# Altium integrated library Analog Devices Operational Amplifiers.IntLib: 2102 symbols (part 2 of 70)
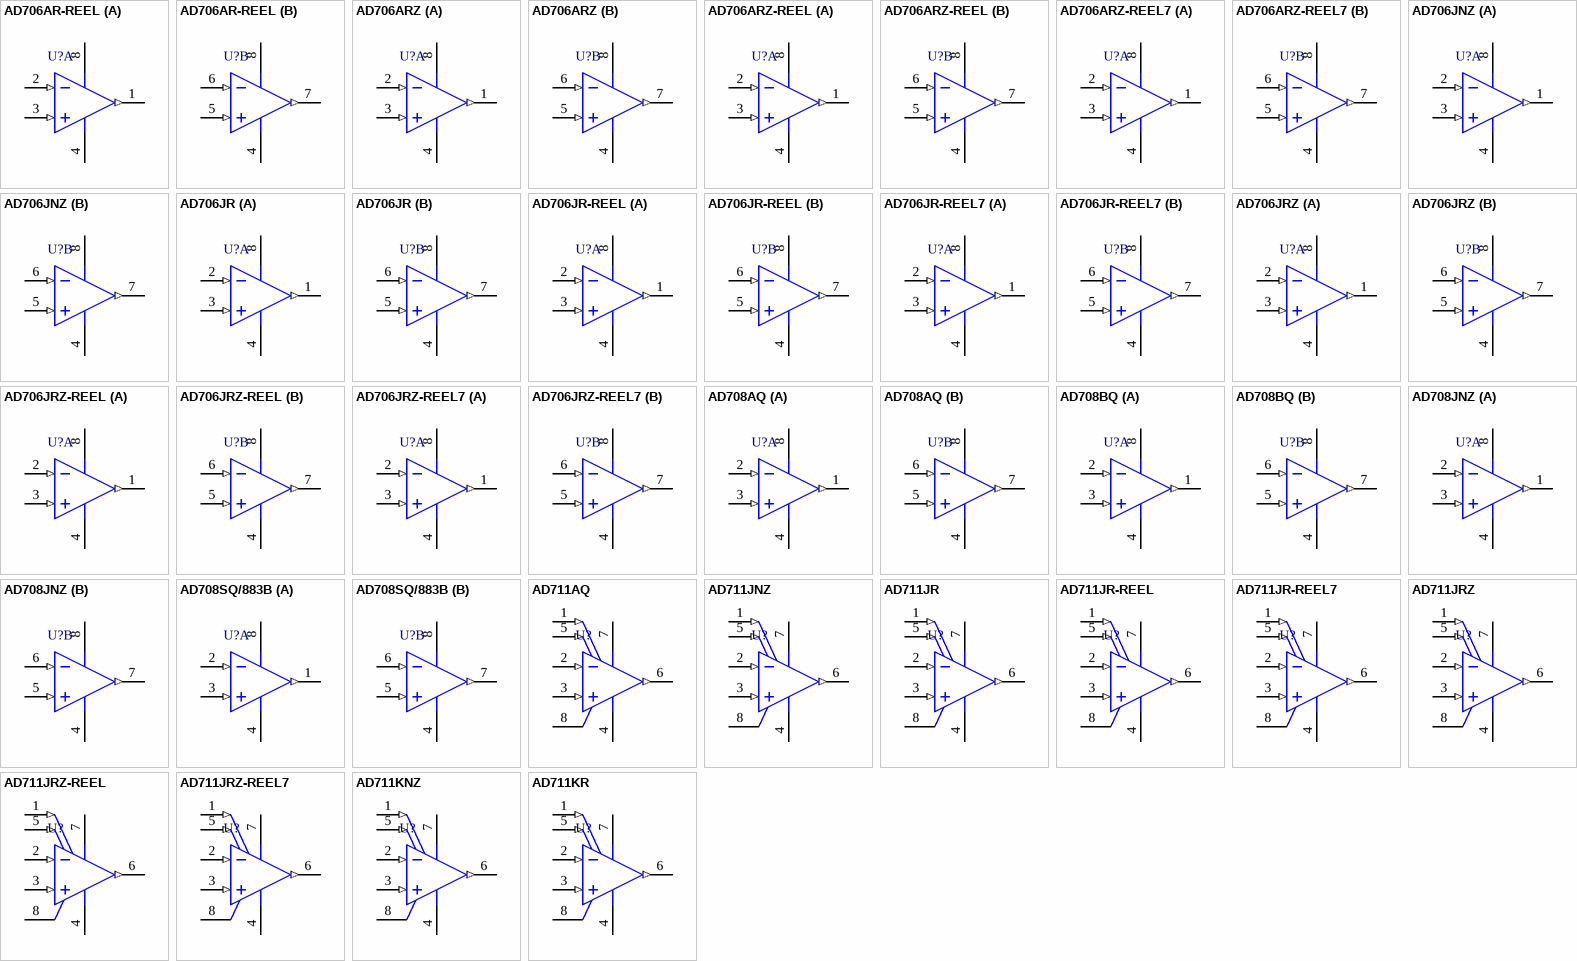
[diagram p115: symbols AD706AR-REEL to AD711KR]

## AD706ARZ-REEL7
designator U?
Double Channel High DC Precision Operational Amplifier, 800 KHz BW, 150 mV/us SR, Industrial, 8-pin SOIC (R-8), Reel; Generic Part Number: AD706; Manufacturer: Analog Devices; PartNumber: AD706ARZ-REEL7; Amplifiers Per Package: 2; Input Bias Current: 50pA; Input Offset Voltage: 30uV; Iq/Amp: 600uA; Small Signal Bandwidth: 800KHz; V Span Max: 36V; V Span Min: 4V; DatasheetVersion: Rev. E; PackageVersion: 060506-A; PackageReference: R-8; PackageDescription: 8-Pin Standard Small Outline Package, Body 3.9 x 4.9 mm, Pitch 1.27 mm; Supplier 1: Digi-Key; Supplier Part Number 1: AD706ARZ-REEL7TR-ND; Supplier 2: Digi-Key; Supplier Part Number 2: AD706ARZ-REEL7CT-ND; Supplier 3: Digi-Key; Supplier Part Number 3: AD706ARZ-REEL7DKR-ND; Supplier 4: Newark; Supplier Part Number 4: 87H9965; Packing: Reel; Slew Rate: 150mV/us; Mounting Technology: Surface Mount; Code_JEDEC: MS-012-AA; ComponentLink1Description: Manufacturer URL; ComponentLink1URL: http://www.analog.com/en/index.html; ComponentLink2Description: Datasheet; ComponentLink2URL: http://www.analog.com/static/imported-files/data_sheets/AD706.pdf; ComponentLink3Description: Package Specification; ComponentLink3URL: http://www.analog.com/static/imported-files/packages/PKG_PDF/SOIC_Narrow%20(R)/R_8.pdf
footprint ADI-R-8_N (SOIC, 8-Leads, Body 4.9x3.9mm, Pitch 1.27mm, IPC Medium Density)
footprint ADI-R-8_L (SOIC, 8-Leads, Body 4.9x3.9mm, Pitch 1.27mm, IPC High Density)
footprint ADI-R-8_M (SOIC, 8-Leads, Body 4.9x3.9mm, Pitch 1.27mm, IPC Low Density)
pins on every part: 4 -V (power), 8 +V (power)
part A pins: 1 OUT (out), 2 -IN (in), 3 +IN (in)
part B pins: 5 +IN (in), 6 -IN (in), 7 OUT (out)

## AD706JNZ
designator U?
Double Channel High DC Precision Operational Amplifier, 800 KHz BW, 150 mV/us SR, Commercial, 8-pin DIP (N-8), Tube; Generic Part Number: AD706; Manufacturer: Analog Devices; PartNumber: AD706JNZ; Amplifiers Per Package: 2; Input Bias Current: 50pA; Input Offset Voltage: 30uV; Iq/Amp: 600uA; Small Signal Bandwidth: 800KHz; V Span Max: 36V; V Span Min: 4V; DatasheetVersion: Rev. E; PackageVersion: 070606-A; PackageReference: N-8; PackageDescription: 8-Pin Plastic Dual In-Line Package, Row spacing 7.62 mm, Pitch 2.54 mm; Supplier 1: Digi-Key; Supplier Part Number 1: AD706JNZ-ND; Supplier 2: Farnell; Supplier Part Number 2: 1438358; Supplier 3: Newark; Supplier Part Number 3: 19M8833; Packing: Tube; Slew Rate: 150mV/us; Mounting Technology: Through Hole; Code_JEDEC: MS-001; ComponentLink1Description: Manufacturer URL; ComponentLink1URL: http://www.analog.com/en/index.html; ComponentLink2Description: Datasheet; ComponentLink2URL: http://www.analog.com/static/imported-files/data_sheets/AD706.pdf; ComponentLink3Description: Package Specification; ComponentLink3URL: http:/www.analog.com/static/imported-files/packages/PKG_PDF/PDIP(N)/N_8.pdf
footprint ADI-N-8 (DIP, 8-Leads, Body 9.59x6.6mm, Pitch 2.54mm)
pins on every part: 4 -V (power), 8 +V (power)
part A pins: 1 OUT (out), 2 -IN (in), 3 +IN (in)
part B pins: 5 +IN (in), 6 -IN (in), 7 OUT (out)

## AD706JR
designator U?
Double Channel High DC Precision Operational Amplifier, 800 KHz BW, 150 mV/us SR, Commercial, 8-pin SOIC (R-8), Tube; Generic Part Number: AD706; Manufacturer: Analog Devices; PartNumber: AD706JR; Amplifiers Per Package: 2; Input Bias Current: 50pA; Input Offset Voltage: 30uV; Iq/Amp: 600uA; Small Signal Bandwidth: 800KHz; V Span Max: 36V; V Span Min: 4V; DatasheetVersion: Rev. E; PackageVersion: 060506-A; PackageReference: R-8; PackageDescription: 8-Pin Standard Small Outline Package, Body 3.9 x 4.9 mm, Pitch 1.27 mm; Supplier 1: Digi-Key; Supplier Part Number 1: AD706JR-ND; Packing: Tube; Slew Rate: 150mV/us; Mounting Technology: Surface Mount; Code_JEDEC: MS-012-AA; ComponentLink1Description: Manufacturer URL; ComponentLink1URL: http://www.analog.com/en/index.html; ComponentLink2Description: Datasheet; ComponentLink2URL: http://www.analog.com/static/imported-files/data_sheets/AD706.pdf; ComponentLink3Description: Package Specification; ComponentLink3URL: http://www.analog.com/static/imported-files/packages/PKG_PDF/SOIC_Narrow%20(R)/R_8.pdf
footprint ADI-R-8_N (SOIC, 8-Leads, Body 4.9x3.9mm, Pitch 1.27mm, IPC Medium Density)
footprint ADI-R-8_L (SOIC, 8-Leads, Body 4.9x3.9mm, Pitch 1.27mm, IPC High Density)
footprint ADI-R-8_M (SOIC, 8-Leads, Body 4.9x3.9mm, Pitch 1.27mm, IPC Low Density)
pins on every part: 4 -V (power), 8 +V (power)
part A pins: 1 OUT (out), 2 -IN (in), 3 +IN (in)
part B pins: 5 +IN (in), 6 -IN (in), 7 OUT (out)

## AD706JR-REEL
designator U?
Double Channel High DC Precision Operational Amplifier, 800 KHz BW, 150 mV/us SR, Commercial, 8-pin SOIC (R-8), Reel; Generic Part Number: AD706; Manufacturer: Analog Devices; PartNumber: AD706JR-REEL; Amplifiers Per Package: 2; Input Bias Current: 50pA; Input Offset Voltage: 30uV; Iq/Amp: 600uA; Small Signal Bandwidth: 800KHz; V Span Max: 36V; V Span Min: 4V; DatasheetVersion: Rev. E; PackageVersion: 060506-A; PackageReference: R-8; PackageDescription: 8-Pin Standard Small Outline Package, Body 3.9 x 4.9 mm, Pitch 1.27 mm; Supplier 1: Digi-Key; Supplier Part Number 1: AD706JR-REEL-ND; Supplier 2: Newark; Supplier Part Number 2: 09B5535; Packing: Reel; Slew Rate: 150mV/us; Mounting Technology: Surface Mount; Code_JEDEC: MS-012-AA; ComponentLink1Description: Manufacturer URL; ComponentLink1URL: http://www.analog.com/en/index.html; ComponentLink2Description: Datasheet; ComponentLink2URL: http://www.analog.com/static/imported-files/data_sheets/AD706.pdf; ComponentLink3Description: Package Specification; ComponentLink3URL: http://www.analog.com/static/imported-files/packages/PKG_PDF/SOIC_Narrow%20(R)/R_8.pdf
footprint ADI-R-8_N (SOIC, 8-Leads, Body 4.9x3.9mm, Pitch 1.27mm, IPC Medium Density)
footprint ADI-R-8_L (SOIC, 8-Leads, Body 4.9x3.9mm, Pitch 1.27mm, IPC High Density)
footprint ADI-R-8_M (SOIC, 8-Leads, Body 4.9x3.9mm, Pitch 1.27mm, IPC Low Density)
pins on every part: 4 -V (power), 8 +V (power)
part A pins: 1 OUT (out), 2 -IN (in), 3 +IN (in)
part B pins: 5 +IN (in), 6 -IN (in), 7 OUT (out)

## AD706JR-REEL7
designator U?
Double Channel High DC Precision Operational Amplifier, 800 KHz BW, 150 mV/us SR, Commercial, 8-pin SOIC (R-8), Reel; Generic Part Number: AD706; Manufacturer: Analog Devices; PartNumber: AD706JR-REEL7; Amplifiers Per Package: 2; Input Bias Current: 50pA; Input Offset Voltage: 30uV; Iq/Amp: 600uA; Small Signal Bandwidth: 800KHz; V Span Max: 36V; V Span Min: 4V; DatasheetVersion: Rev. E; PackageVersion: 060506-A; PackageReference: R-8; PackageDescription: 8-Pin Standard Small Outline Package, Body 3.9 x 4.9 mm, Pitch 1.27 mm; Supplier 1: Digi-Key; Supplier Part Number 1: AD706JR-REEL7-ND; Supplier 2: Newark; Supplier Part Number 2: 09B5536; Packing: Reel; Slew Rate: 150mV/us; Mounting Technology: Surface Mount; Code_JEDEC: MS-012-AA; ComponentLink1Description: Manufacturer URL; ComponentLink1URL: http://www.analog.com/en/index.html; ComponentLink2Description: Datasheet; ComponentLink2URL: http://www.analog.com/static/imported-files/data_sheets/AD706.pdf; ComponentLink3Description: Package Specification; ComponentLink3URL: http://www.analog.com/static/imported-files/packages/PKG_PDF/SOIC_Narrow%20(R)/R_8.pdf
footprint ADI-R-8_N (SOIC, 8-Leads, Body 4.9x3.9mm, Pitch 1.27mm, IPC Medium Density)
footprint ADI-R-8_L (SOIC, 8-Leads, Body 4.9x3.9mm, Pitch 1.27mm, IPC High Density)
footprint ADI-R-8_M (SOIC, 8-Leads, Body 4.9x3.9mm, Pitch 1.27mm, IPC Low Density)
pins on every part: 4 -V (power), 8 +V (power)
part A pins: 1 OUT (out), 2 -IN (in), 3 +IN (in)
part B pins: 5 +IN (in), 6 -IN (in), 7 OUT (out)

## AD706JRZ
designator U?
Double Channel High DC Precision Operational Amplifier, 800 KHz BW, 150 mV/us SR, Commercial, 8-pin SOIC (R-8), Tube; Generic Part Number: AD706; Manufacturer: Analog Devices; PartNumber: AD706JRZ; Amplifiers Per Package: 2; Input Bias Current: 50pA; Input Offset Voltage: 30uV; Iq/Amp: 600uA; Small Signal Bandwidth: 800KHz; V Span Max: 36V; V Span Min: 4V; DatasheetVersion: Rev. E; PackageVersion: 060506-A; PackageReference: R-8; PackageDescription: 8-Pin Standard Small Outline Package, Body 3.9 x 4.9 mm, Pitch 1.27 mm; Supplier 1: Digi-Key; Supplier Part Number 1: AD706JRZ-ND; Supplier 2: Farnell; Supplier Part Number 2: 1423828; Supplier 3: Newark; Supplier Part Number 3: 87H9966; Packing: Tube; Slew Rate: 150mV/us; Mounting Technology: Surface Mount; Code_JEDEC: MS-012-AA; ComponentLink1Description: Manufacturer URL; ComponentLink1URL: http://www.analog.com/en/index.html; ComponentLink2Description: Datasheet; ComponentLink2URL: http://www.analog.com/static/imported-files/data_sheets/AD706.pdf; ComponentLink3Description: Package Specification; ComponentLink3URL: http://www.analog.com/static/imported-files/packages/PKG_PDF/SOIC_Narrow%20(R)/R_8.pdf
footprint ADI-R-8_N (SOIC, 8-Leads, Body 4.9x3.9mm, Pitch 1.27mm, IPC Medium Density)
footprint ADI-R-8_L (SOIC, 8-Leads, Body 4.9x3.9mm, Pitch 1.27mm, IPC High Density)
footprint ADI-R-8_M (SOIC, 8-Leads, Body 4.9x3.9mm, Pitch 1.27mm, IPC Low Density)
pins on every part: 4 -V (power), 8 +V (power)
part A pins: 1 OUT (out), 2 -IN (in), 3 +IN (in)
part B pins: 5 +IN (in), 6 -IN (in), 7 OUT (out)

## AD706JRZ-REEL
designator U?
Double Channel High DC Precision Operational Amplifier, 800 KHz BW, 150 mV/us SR, Commercial, 8-pin SOIC (R-8), Reel; Generic Part Number: AD706; Manufacturer: Analog Devices; PartNumber: AD706JRZ-REEL; Amplifiers Per Package: 2; Input Bias Current: 50pA; Input Offset Voltage: 30uV; Iq/Amp: 600uA; Small Signal Bandwidth: 800KHz; V Span Max: 36V; V Span Min: 4V; DatasheetVersion: Rev. E; PackageVersion: 060506-A; PackageReference: R-8; PackageDescription: 8-Pin Standard Small Outline Package, Body 3.9 x 4.9 mm, Pitch 1.27 mm; Supplier 1: Digi-Key; Supplier Part Number 1: AD706JRZ-REEL-ND; Packing: Reel; Slew Rate: 150mV/us; Mounting Technology: Surface Mount; Code_JEDEC: MS-012-AA; ComponentLink1Description: Manufacturer URL; ComponentLink1URL: http://www.analog.com/en/index.html; ComponentLink2Description: Datasheet; ComponentLink2URL: http://www.analog.com/static/imported-files/data_sheets/AD706.pdf; ComponentLink3Description: Package Specification; ComponentLink3URL: http://www.analog.com/static/imported-files/packages/PKG_PDF/SOIC_Narrow%20(R)/R_8.pdf
footprint ADI-R-8_N (SOIC, 8-Leads, Body 4.9x3.9mm, Pitch 1.27mm, IPC Medium Density)
footprint ADI-R-8_L (SOIC, 8-Leads, Body 4.9x3.9mm, Pitch 1.27mm, IPC High Density)
footprint ADI-R-8_M (SOIC, 8-Leads, Body 4.9x3.9mm, Pitch 1.27mm, IPC Low Density)
pins on every part: 4 -V (power), 8 +V (power)
part A pins: 1 OUT (out), 2 -IN (in), 3 +IN (in)
part B pins: 5 +IN (in), 6 -IN (in), 7 OUT (out)

## AD706JRZ-REEL7
designator U?
Double Channel High DC Precision Operational Amplifier, 800 KHz BW, 150 mV/us SR, Commercial, 8-pin SOIC (R-8), Reel; Generic Part Number: AD706; Manufacturer: Analog Devices; PartNumber: AD706JRZ-REEL7; Amplifiers Per Package: 2; Input Bias Current: 50pA; Input Offset Voltage: 30uV; Iq/Amp: 600uA; Small Signal Bandwidth: 800KHz; V Span Max: 36V; V Span Min: 4V; DatasheetVersion: Rev. E; PackageVersion: 060506-A; PackageReference: R-8; PackageDescription: 8-Pin Standard Small Outline Package, Body 3.9 x 4.9 mm, Pitch 1.27 mm; Supplier 1: Digi-Key; Supplier Part Number 1: AD706JRZ-REEL7TR-ND; Supplier 2: Digi-Key; Supplier Part Number 2: AD706JRZ-REEL7CT-ND; Supplier 3: Digi-Key; Supplier Part Number 3: AD706JRZ-REEL7DKR-ND; Supplier 4: Newark; Supplier Part Number 4: 87H9968; Packing: Reel; Slew Rate: 150mV/us; Mounting Technology: Surface Mount; Code_JEDEC: MS-012-AA; ComponentLink1Description: Manufacturer URL; ComponentLink1URL: http://www.analog.com/en/index.html; ComponentLink2Description: Datasheet; ComponentLink2URL: http://www.analog.com/static/imported-files/data_sheets/AD706.pdf; ComponentLink3Description: Package Specification; ComponentLink3URL: http://www.analog.com/static/imported-files/packages/PKG_PDF/SOIC_Narrow%20(R)/R_8.pdf
footprint ADI-R-8_N (SOIC, 8-Leads, Body 4.9x3.9mm, Pitch 1.27mm, IPC Medium Density)
footprint ADI-R-8_L (SOIC, 8-Leads, Body 4.9x3.9mm, Pitch 1.27mm, IPC High Density)
footprint ADI-R-8_M (SOIC, 8-Leads, Body 4.9x3.9mm, Pitch 1.27mm, IPC Low Density)
pins on every part: 4 -V (power), 8 +V (power)
part A pins: 1 OUT (out), 2 -IN (in), 3 +IN (in)
part B pins: 5 +IN (in), 6 -IN (in), 7 OUT (out)

## AD708AQ
designator U?
Double Channel Very High DC Precision Operational Amplifier, 900KHz BW, 300 mV/us SR, Industrial, 8-pin DIP (Q-8), Tube; Generic Part Number: AD708; Manufacturer: Analog Devices; PartNumber: AD708AQ; Amplifiers Per Package: 2; Input Bias Current: 1nA; Input Offset Voltage: 30uV; Iq/Amp: 2.75mA; V Span Max: 36V; V Span Min: 6V; DatasheetVersion: Rev. C; PackageReference: Q-8; PackageDescription: 8-Pin Ceramic Dual In-Line Package, Row spacing 7.62 mm, Pitch 2.54 mm; Supplier 1: Digi-Key; Supplier Part Number 1: AD708AQ-ND; Supplier 2: Farnell; Supplier Part Number 2: 2231864; Supplier 3: Newark; Supplier Part Number 3: 05F7250; Packing: Tube; Slew Rate: 300mV/us; Small Signal Bandwidth: 900KHz; Mounting Technology: Through Hole; ComponentLink1Description: Manufacturer URL; ComponentLink1URL: http://www.analog.com/en/index.html; ComponentLink2Description: Datasheet; ComponentLink2URL: http://www.analog.com/static/imported-files/data_sheets/AD708.pdf; ComponentLink3Description: Package Specification; ComponentLink3URL: http://www.analog.com/static/imported-files/packages/3925655241313314758Q_8.pdf
footprint ADI-Q-8 (DIP, 8-Leads, Body 10.29x6.73mm, Pitch 2.54mm)
pins on every part: 4 -VS (power), 8 +VS (power)
part A pins: 1 OUT A (out), 2 -IN A (in), 3 +IN A (in)
part B pins: 5 +IN B (in), 6 -IN B (in), 7 OUT B (out)

## AD708BQ
designator U?
Double Channel Very High DC Precision Operational Amplifier, 900KHz BW, 300 mV/us SR, Industrial, 8-pin DIP (Q-8), Tube; Generic Part Number: AD708; Manufacturer: Analog Devices; PartNumber: AD708BQ; Amplifiers Per Package: 2; Input Bias Current: 0.5nA; Input Offset Voltage: 5uV; Iq/Amp: 2.75mA; V Span Max: 36V; V Span Min: 6V; DatasheetVersion: Rev. C; PackageReference: Q-8; PackageDescription: 8-Pin Ceramic Dual In-Line Package, Row spacing 7.62 mm, Pitch 2.54 mm; Supplier 1: Digi-Key; Supplier Part Number 1: AD708BQ-ND; Supplier 2: Newark; Supplier Part Number 2: 05F7251; Packing: Tube; Slew Rate: 300mV/us; Small Signal Bandwidth: 900KHz; Mounting Technology: Through Hole; ComponentLink1Description: Manufacturer URL; ComponentLink1URL: http://www.analog.com/en/index.html; ComponentLink2Description: Datasheet; ComponentLink2URL: http://www.analog.com/static/imported-files/data_sheets/AD708.pdf; ComponentLink3Description: Package Specification; ComponentLink3URL: http://www.analog.com/static/imported-files/packages/3925655241313314758Q_8.pdf
footprint ADI-Q-8 (DIP, 8-Leads, Body 10.29x6.73mm, Pitch 2.54mm)
pins on every part: 4 -VS (power), 8 +VS (power)
part A pins: 1 OUT A (out), 2 -IN A (in), 3 +IN A (in)
part B pins: 5 +IN B (in), 6 -IN B (in), 7 OUT B (out)

## AD708JNZ
designator U?
Double Channel Very High DC Precision Operational Amplifier, 900KHz BW, 300 mV/us SR, Commercial, 8-pin DIP (N-8), Tube; Generic Part Number: AD708; Manufacturer: Analog Devices; PartNumber: AD708JNZ; Amplifiers Per Package: 2; Input Bias Current: 1nA; Input Offset Voltage: 30uV; Iq/Amp: 2.75mA; V Span Max: 36V; V Span Min: 6V; DatasheetVersion: Rev. C; PackageVersion: 070606-A; PackageReference: N-8; PackageDescription: 8-Pin Plastic Dual In-Line Package, Row spacing 7.62 mm, Pitch 2.54 mm; Supplier 1: Digi-Key; Supplier Part Number 1: AD708JNZ-ND; Supplier 2: Farnell; Supplier Part Number 2: 9604766; Supplier 3: Newark; Supplier Part Number 3: 59K4537; Packing: Tube; Slew Rate: 300mV/us; Small Signal Bandwidth: 900KHz; Mounting Technology: Through Hole; Code_JEDEC: MS-001; ComponentLink1Description: Manufacturer URL; ComponentLink1URL: http://www.analog.com/en/index.html; ComponentLink2Description: Datasheet; ComponentLink2URL: http://www.analog.com/static/imported-files/data_sheets/AD708.pdf; ComponentLink3Description: Package Specification; ComponentLink3URL: http:/www.analog.com/static/imported-files/packages/PKG_PDF/PDIP(N)/N_8.pdf
footprint ADI-N-8 (DIP, 8-Leads, Body 9.59x6.6mm, Pitch 2.54mm)
pins on every part: 4 -VS (power), 8 +VS (power)
part A pins: 1 OUT A (out), 2 -IN A (in), 3 +IN A (in)
part B pins: 5 +IN B (in), 6 -IN B (in), 7 OUT B (out)

## AD708SQ/883B
designator U?
Double Channel Very High DC Precision Operational Amplifier, 900KHz BW, 300 mV/us SR, Military, 8-pin DIP (Q-8), Tube; Generic Part Number: AD708; Manufacturer: Analog Devices; PartNumber: AD708SQ/883B; Amplifiers Per Package: 2; Input Bias Current: 0.5nA; Input Offset Voltage: 5uV; Iq/Amp: 2.75mA; V Span Max: 36V; V Span Min: 6V; DatasheetVersion: Rev. C; PackageReference: Q-8; PackageDescription: 8-Pin Ceramic Dual In-Line Package, Row spacing 7.62 mm, Pitch 2.54 mm; Supplier 1: Digi-Key; Supplier Part Number 1: AD708SQ/883B-ND; Packing: Tube; Slew Rate: 300mV/us; Small Signal Bandwidth: 900KHz; Mounting Technology: Through Hole; ComponentLink1Description: Manufacturer URL; ComponentLink1URL: http://www.analog.com/en/index.html; ComponentLink2Description: Datasheet; ComponentLink2URL: http://www.analog.com/static/imported-files/data_sheets/AD708.pdf; ComponentLink3Description: Package Specification; ComponentLink3URL: http://www.analog.com/static/imported-files/packages/3925655241313314758Q_8.pdf
footprint ADI-Q-8 (DIP, 8-Leads, Body 10.29x6.73mm, Pitch 2.54mm)
pins on every part: 4 -VS (power), 8 +VS (power)
part A pins: 1 OUT A (out), 2 -IN A (in), 3 +IN A (in)
part B pins: 5 +IN B (in), 6 -IN B (in), 7 OUT B (out)

## AD711AQ
designator U?
Single Channel Operational Amplifier, 4 MHz BW, 20 V/us SR, Industrial, 8-pin DIP (Q-8), Tube; Generic Part Number: AD711; Manufacturer: Analog Devices; PartNumber: AD711AQ; Amplifiers Per Package: 1; Input Bias Current: 15pA; Input Offset Voltage: 300uV; Iq/Amp: 2.8mA; Slew Rate: 20V/us; Small Signal Bandwidth: 4MHz; V Span Max: 36V; V Span Min: 9V; DatasheetVersion: Rev. E; PackageReference: Q-8; PackageDescription: 8-Pin Ceramic Dual In-Line Package, Row spacing 7.62 mm, Pitch 2.54 mm; Supplier 1: Digi-Key; Supplier Part Number 1: AD711AQ-ND; Supplier 2: Newark; Supplier Part Number 2: 05F7255; Packing: Tube; Mounting Technology: Through Hole; ComponentLink1Description: Manufacturer URL; ComponentLink1URL: http://www.analog.com/en/index.html; ComponentLink2Description: Datasheet; ComponentLink2URL: http://www.analog.com/static/imported-files/data_sheets/AD711.pdf; ComponentLink3Description: Package Specification; ComponentLink3URL: http://www.analog.com/static/imported-files/packages/3925655241313314758Q_8.pdf
footprint ADI-Q-8 (DIP, 8-Leads, Body 10.29x6.73mm, Pitch 2.54mm)
pins: 1 OFFSET NULL (in), 2 INVERTING INPUT (in), 3 NONINVERTING INPUT (in), 4 -VS (power), 5 OFFSET NULL (in), 6 OUT (out), 7 +VS (power), 8 NC

## AD711JNZ
designator U?
Single Channel Operational Amplifier, 4 MHz BW, 20 V/us SR, Commercial, 8-pin DIP (N-8), Tube; Generic Part Number: AD711; Manufacturer: Analog Devices; PartNumber: AD711JNZ; Amplifiers Per Package: 1; Input Bias Current: 15pA; Input Offset Voltage: 300uV; Iq/Amp: 2.8mA; Slew Rate: 20V/us; Small Signal Bandwidth: 4MHz; V Span Max: 36V; V Span Min: 9V; DatasheetVersion: Rev. E; PackageVersion: 070606-A; PackageReference: N-8; PackageDescription: 8-Pin Plastic Dual In-Line Package, Row spacing 7.62 mm, Pitch 2.54 mm; Supplier 1: Digi-Key; Supplier Part Number 1: AD711JNZ-ND; Supplier 2: Farnell; Supplier Part Number 2: 9604839; Supplier 3: Newark; Supplier Part Number 3: 59K4538; Packing: Tube; Mounting Technology: Through Hole; Code_JEDEC: MS-001; ComponentLink1Description: Manufacturer URL; ComponentLink1URL: http://www.analog.com/en/index.html; ComponentLink2Description: Datasheet; ComponentLink2URL: http://www.analog.com/static/imported-files/data_sheets/AD711.pdf; ComponentLink3Description: Package Specification; ComponentLink3URL: http:/www.analog.com/static/imported-files/packages/PKG_PDF/PDIP(N)/N_8.pdf
footprint ADI-N-8 (DIP, 8-Leads, Body 9.59x6.6mm, Pitch 2.54mm)
pins: 1 OFFSET NULL (in), 2 INVERTING INPUT (in), 3 NONINVERTING INPUT (in), 4 -VS (power), 5 OFFSET NULL (in), 6 OUT (out), 7 +VS (power), 8 NC

## AD711JR
designator U?
Single Channel Operational Amplifier, 4 MHz BW, 20 V/us SR, Commercial, 8-pin SOIC (R-8), Tube; Generic Part Number: AD711; Manufacturer: Analog Devices; PartNumber: AD711JR; Amplifiers Per Package: 1; Input Bias Current: 15pA; Input Offset Voltage: 300uV; Iq/Amp: 2.8mA; Slew Rate: 20V/us; Small Signal Bandwidth: 4MHz; V Span Max: 36V; V Span Min: 9V; DatasheetVersion: Rev. E; PackageVersion: 060506-A; PackageReference: R-8; PackageDescription: 8-Pin Standard Small Outline Package, Body 3.9 x 4.9 mm, Pitch 1.27 mm; Supplier 1: Digi-Key; Supplier Part Number 1: AD711JR-ND; Packing: Tube; Mounting Technology: Surface Mount; Code_JEDEC: MS-012-AA; ComponentLink1Description: Manufacturer URL; ComponentLink1URL: http://www.analog.com/en/index.html; ComponentLink2Description: Datasheet; ComponentLink2URL: http://www.analog.com/static/imported-files/data_sheets/AD711.pdf; ComponentLink3Description: Package Specification; ComponentLink3URL: http://www.analog.com/static/imported-files/packages/PKG_PDF/SOIC_Narrow%20(R)/R_8.pdf
footprint ADI-R-8_N (SOIC, 8-Leads, Body 4.9x3.9mm, Pitch 1.27mm, IPC Medium Density)
footprint ADI-R-8_L (SOIC, 8-Leads, Body 4.9x3.9mm, Pitch 1.27mm, IPC High Density)
footprint ADI-R-8_M (SOIC, 8-Leads, Body 4.9x3.9mm, Pitch 1.27mm, IPC Low Density)
pins: 1 OFFSET NULL (in), 2 INVERTING INPUT (in), 3 NONINVERTING INPUT (in), 4 -VS (power), 5 OFFSET NULL (in), 6 OUT (out), 7 +VS (power), 8 NC

## AD711JR-REEL
designator U?
Single Channel Operational Amplifier, 4 MHz BW, 20 V/us SR, Commercial, 8-pin SOIC (R-8), Reel; Generic Part Number: AD711; Manufacturer: Analog Devices; PartNumber: AD711JR-REEL; Amplifiers Per Package: 1; Input Bias Current: 15pA; Input Offset Voltage: 300uV; Iq/Amp: 2.8mA; Slew Rate: 20V/us; Small Signal Bandwidth: 4MHz; V Span Max: 36V; V Span Min: 9V; DatasheetVersion: Rev. E; PackageVersion: 060506-A; PackageReference: R-8; PackageDescription: 8-Pin Standard Small Outline Package, Body 3.9 x 4.9 mm, Pitch 1.27 mm; Supplier 1: Digi-Key; Supplier Part Number 1: AD711JR-REEL-ND; Supplier 2: Newark; Supplier Part Number 2: 09B5546; Packing: Reel; Mounting Technology: Surface Mount; Code_JEDEC: MS-012-AA; ComponentLink1Description: Manufacturer URL; ComponentLink1URL: http://www.analog.com/en/index.html; ComponentLink2Description: Datasheet; ComponentLink2URL: http://www.analog.com/static/imported-files/data_sheets/AD711.pdf; ComponentLink3Description: Package Specification; ComponentLink3URL: http://www.analog.com/static/imported-files/packages/PKG_PDF/SOIC_Narrow%20(R)/R_8.pdf
footprint ADI-R-8_N (SOIC, 8-Leads, Body 4.9x3.9mm, Pitch 1.27mm, IPC Medium Density)
footprint ADI-R-8_L (SOIC, 8-Leads, Body 4.9x3.9mm, Pitch 1.27mm, IPC High Density)
footprint ADI-R-8_M (SOIC, 8-Leads, Body 4.9x3.9mm, Pitch 1.27mm, IPC Low Density)
pins: 1 OFFSET NULL (in), 2 INVERTING INPUT (in), 3 NONINVERTING INPUT (in), 4 -VS (power), 5 OFFSET NULL (in), 6 OUT (out), 7 +VS (power), 8 NC

## AD711JR-REEL7
designator U?
Single Channel Operational Amplifier, 4 MHz BW, 20 V/us SR, Commercial, 8-pin SOIC (R-8), Reel; Generic Part Number: AD711; Manufacturer: Analog Devices; PartNumber: AD711JR-REEL7; Amplifiers Per Package: 1; Input Bias Current: 15pA; Input Offset Voltage: 300uV; Iq/Amp: 2.8mA; Slew Rate: 20V/us; Small Signal Bandwidth: 4MHz; V Span Max: 36V; V Span Min: 9V; DatasheetVersion: Rev. E; PackageVersion: 060506-A; PackageReference: R-8; PackageDescription: 8-Pin Standard Small Outline Package, Body 3.9 x 4.9 mm, Pitch 1.27 mm; Supplier 1: Digi-Key; Supplier Part Number 1: AD711JR-REEL7-ND; Supplier 2: Newark; Supplier Part Number 2: 09B5547; Packing: Reel; Mounting Technology: Surface Mount; Code_JEDEC: MS-012-AA; ComponentLink1Description: Manufacturer URL; ComponentLink1URL: http://www.analog.com/en/index.html; ComponentLink2Description: Datasheet; ComponentLink2URL: http://www.analog.com/static/imported-files/data_sheets/AD711.pdf; ComponentLink3Description: Package Specification; ComponentLink3URL: http://www.analog.com/static/imported-files/packages/PKG_PDF/SOIC_Narrow%20(R)/R_8.pdf
footprint ADI-R-8_N (SOIC, 8-Leads, Body 4.9x3.9mm, Pitch 1.27mm, IPC Medium Density)
footprint ADI-R-8_L (SOIC, 8-Leads, Body 4.9x3.9mm, Pitch 1.27mm, IPC High Density)
footprint ADI-R-8_M (SOIC, 8-Leads, Body 4.9x3.9mm, Pitch 1.27mm, IPC Low Density)
pins: 1 OFFSET NULL (in), 2 INVERTING INPUT (in), 3 NONINVERTING INPUT (in), 4 -VS (power), 5 OFFSET NULL (in), 6 OUT (out), 7 +VS (power), 8 NC

## AD711JRZ
designator U?
Single Channel Operational Amplifier, 4 MHz BW, 20 V/us SR, Commercial, 8-pin SOIC (R-8), Tube; Generic Part Number: AD711; Manufacturer: Analog Devices; PartNumber: AD711JRZ; Amplifiers Per Package: 1; Input Bias Current: 15pA; Input Offset Voltage: 300uV; Iq/Amp: 2.8mA; Slew Rate: 20V/us; Small Signal Bandwidth: 4MHz; V Span Max: 36V; V Span Min: 9V; DatasheetVersion: Rev. E; PackageVersion: 060506-A; PackageReference: R-8; PackageDescription: 8-Pin Standard Small Outline Package, Body 3.9 x 4.9 mm, Pitch 1.27 mm; Supplier 1: Digi-Key; Supplier Part Number 1: AD711JRZ-ND; Supplier 2: Farnell; Supplier Part Number 2: 9426396; Supplier 3: Newark; Supplier Part Number 3: 59K4539; Packing: Tube; Mounting Technology: Surface Mount; Code_JEDEC: MS-012-AA; ComponentLink1Description: Manufacturer URL; ComponentLink1URL: http://www.analog.com/en/index.html; ComponentLink2Description: Datasheet; ComponentLink2URL: http://www.analog.com/static/imported-files/data_sheets/AD711.pdf; ComponentLink3Description: Package Specification; ComponentLink3URL: http://www.analog.com/static/imported-files/packages/PKG_PDF/SOIC_Narrow%20(R)/R_8.pdf
footprint ADI-R-8_N (SOIC, 8-Leads, Body 4.9x3.9mm, Pitch 1.27mm, IPC Medium Density)
footprint ADI-R-8_L (SOIC, 8-Leads, Body 4.9x3.9mm, Pitch 1.27mm, IPC High Density)
footprint ADI-R-8_M (SOIC, 8-Leads, Body 4.9x3.9mm, Pitch 1.27mm, IPC Low Density)
pins: 1 OFFSET NULL (in), 2 INVERTING INPUT (in), 3 NONINVERTING INPUT (in), 4 -VS (power), 5 OFFSET NULL (in), 6 OUT (out), 7 +VS (power), 8 NC

## AD711JRZ-REEL
designator U?
Single Channel Operational Amplifier, 4 MHz BW, 20 V/us SR, Commercial, 8-pin SOIC (R-8), Reel; Generic Part Number: AD711; Manufacturer: Analog Devices; PartNumber: AD711JRZ-REEL; Amplifiers Per Package: 1; Input Bias Current: 15pA; Input Offset Voltage: 300uV; Iq/Amp: 2.8mA; Slew Rate: 20V/us; Small Signal Bandwidth: 4MHz; V Span Max: 36V; V Span Min: 9V; DatasheetVersion: Rev. E; PackageVersion: 060506-A; PackageReference: R-8; PackageDescription: 8-Pin Standard Small Outline Package, Body 3.9 x 4.9 mm, Pitch 1.27 mm; Supplier 1: Digi-Key; Supplier Part Number 1: AD711JRZ-REEL-ND; Supplier 2: Newark; Supplier Part Number 2: 87H9969; Packing: Reel; Mounting Technology: Surface Mount; Code_JEDEC: MS-012-AA; ComponentLink1Description: Manufacturer URL; ComponentLink1URL: http://www.analog.com/en/index.html; ComponentLink2Description: Datasheet; ComponentLink2URL: http://www.analog.com/static/imported-files/data_sheets/AD711.pdf; ComponentLink3Description: Package Specification; ComponentLink3URL: http://www.analog.com/static/imported-files/packages/PKG_PDF/SOIC_Narrow%20(R)/R_8.pdf
footprint ADI-R-8_N (SOIC, 8-Leads, Body 4.9x3.9mm, Pitch 1.27mm, IPC Medium Density)
footprint ADI-R-8_L (SOIC, 8-Leads, Body 4.9x3.9mm, Pitch 1.27mm, IPC High Density)
footprint ADI-R-8_M (SOIC, 8-Leads, Body 4.9x3.9mm, Pitch 1.27mm, IPC Low Density)
pins: 1 OFFSET NULL (in), 2 INVERTING INPUT (in), 3 NONINVERTING INPUT (in), 4 -VS (power), 5 OFFSET NULL (in), 6 OUT (out), 7 +VS (power), 8 NC

## AD711JRZ-REEL7
designator U?
Single Channel Operational Amplifier, 4 MHz BW, 20 V/us SR, Commercial, 8-pin SOIC (R-8), Reel; Generic Part Number: AD711; Manufacturer: Analog Devices; PartNumber: AD711JRZ-REEL7; Amplifiers Per Package: 1; Input Bias Current: 15pA; Input Offset Voltage: 300uV; Iq/Amp: 2.8mA; Slew Rate: 20V/us; Small Signal Bandwidth: 4MHz; V Span Max: 36V; V Span Min: 9V; DatasheetVersion: Rev. E; PackageVersion: 060506-A; PackageReference: R-8; PackageDescription: 8-Pin Standard Small Outline Package, Body 3.9 x 4.9 mm, Pitch 1.27 mm; Supplier 1: Digi-Key; Supplier Part Number 1: AD711JRZ-REEL7-ND; Supplier 2: Newark; Supplier Part Number 2: 87H9970; Packing: Reel; Mounting Technology: Surface Mount; Code_JEDEC: MS-012-AA; ComponentLink1Description: Manufacturer URL; ComponentLink1URL: http://www.analog.com/en/index.html; ComponentLink2Description: Datasheet; ComponentLink2URL: http://www.analog.com/static/imported-files/data_sheets/AD711.pdf; ComponentLink3Description: Package Specification; ComponentLink3URL: http://www.analog.com/static/imported-files/packages/PKG_PDF/SOIC_Narrow%20(R)/R_8.pdf
footprint ADI-R-8_N (SOIC, 8-Leads, Body 4.9x3.9mm, Pitch 1.27mm, IPC Medium Density)
footprint ADI-R-8_L (SOIC, 8-Leads, Body 4.9x3.9mm, Pitch 1.27mm, IPC High Density)
footprint ADI-R-8_M (SOIC, 8-Leads, Body 4.9x3.9mm, Pitch 1.27mm, IPC Low Density)
pins: 1 OFFSET NULL (in), 2 INVERTING INPUT (in), 3 NONINVERTING INPUT (in), 4 -VS (power), 5 OFFSET NULL (in), 6 OUT (out), 7 +VS (power), 8 NC

## AD711KNZ
designator U?
Single Channel Operational Amplifier, 4 MHz BW, 20 V/us SR, Commercial, 8-pin DIP (N-8), Tube; Generic Part Number: AD711; Manufacturer: Analog Devices; PartNumber: AD711KNZ; Amplifiers Per Package: 1; Input Bias Current: 15pA; Input Offset Voltage: 200uV; Iq/Amp: 2.8mA; Slew Rate: 20V/us; Small Signal Bandwidth: 4MHz; V Span Max: 36V; V Span Min: 9V; DatasheetVersion: Rev. E; PackageVersion: 070606-A; PackageReference: N-8; PackageDescription: 8-Pin Plastic Dual In-Line Package, Row spacing 7.62 mm, Pitch 2.54 mm; Supplier 1: Digi-Key; Supplier Part Number 1: AD711KNZ-ND; Supplier 2: Farnell; Supplier Part Number 2: 1660965; Supplier 3: Newark; Supplier Part Number 3: 59K4540; Packing: Tube; Mounting Technology: Through Hole; Code_JEDEC: MS-001; ComponentLink1Description: Manufacturer URL; ComponentLink1URL: http://www.analog.com/en/index.html; ComponentLink2Description: Datasheet; ComponentLink2URL: http://www.analog.com/static/imported-files/data_sheets/AD711.pdf; ComponentLink3Description: Package Specification; ComponentLink3URL: http:/www.analog.com/static/imported-files/packages/PKG_PDF/PDIP(N)/N_8.pdf
footprint ADI-N-8 (DIP, 8-Leads, Body 9.59x6.6mm, Pitch 2.54mm)
pins: 1 OFFSET NULL (in), 2 INVERTING INPUT (in), 3 NONINVERTING INPUT (in), 4 -VS (power), 5 OFFSET NULL (in), 6 OUT (out), 7 +VS (power), 8 NC

## AD711KR
designator U?
Single Channel Operational Amplifier, 4 MHz BW, 20 V/us SR, Commercial, 8-pin SOIC (R-8), Tube; Generic Part Number: AD711; Manufacturer: Analog Devices; PartNumber: AD711KR; Amplifiers Per Package: 1; Input Bias Current: 15pA; Input Offset Voltage: 200uV; Iq/Amp: 2.8mA; Slew Rate: 20V/us; Small Signal Bandwidth: 4MHz; V Span Max: 36V; V Span Min: 9V; DatasheetVersion: Rev. E; PackageVersion: 060506-A; PackageReference: R-8; PackageDescription: 8-Pin Standard Small Outline Package, Body 3.9 x 4.9 mm, Pitch 1.27 mm; Supplier 1: Digi-Key; Supplier Part Number 1: AD711KR-ND; Packing: Tube; Mounting Technology: Surface Mount; Code_JEDEC: MS-012-AA; ComponentLink1Description: Manufacturer URL; ComponentLink1URL: http://www.analog.com/en/index.html; ComponentLink2Description: Datasheet; ComponentLink2URL: http://www.analog.com/static/imported-files/data_sheets/AD711.pdf; ComponentLink3Description: Package Specification; ComponentLink3URL: http://www.analog.com/static/imported-files/packages/PKG_PDF/SOIC_Narrow%20(R)/R_8.pdf
footprint ADI-R-8_N (SOIC, 8-Leads, Body 4.9x3.9mm, Pitch 1.27mm, IPC Medium Density)
footprint ADI-R-8_L (SOIC, 8-Leads, Body 4.9x3.9mm, Pitch 1.27mm, IPC High Density)
footprint ADI-R-8_M (SOIC, 8-Leads, Body 4.9x3.9mm, Pitch 1.27mm, IPC Low Density)
pins: 1 OFFSET NULL (in), 2 INVERTING INPUT (in), 3 NONINVERTING INPUT (in), 4 -VS (power), 5 OFFSET NULL (in), 6 OUT (out), 7 +VS (power), 8 NC

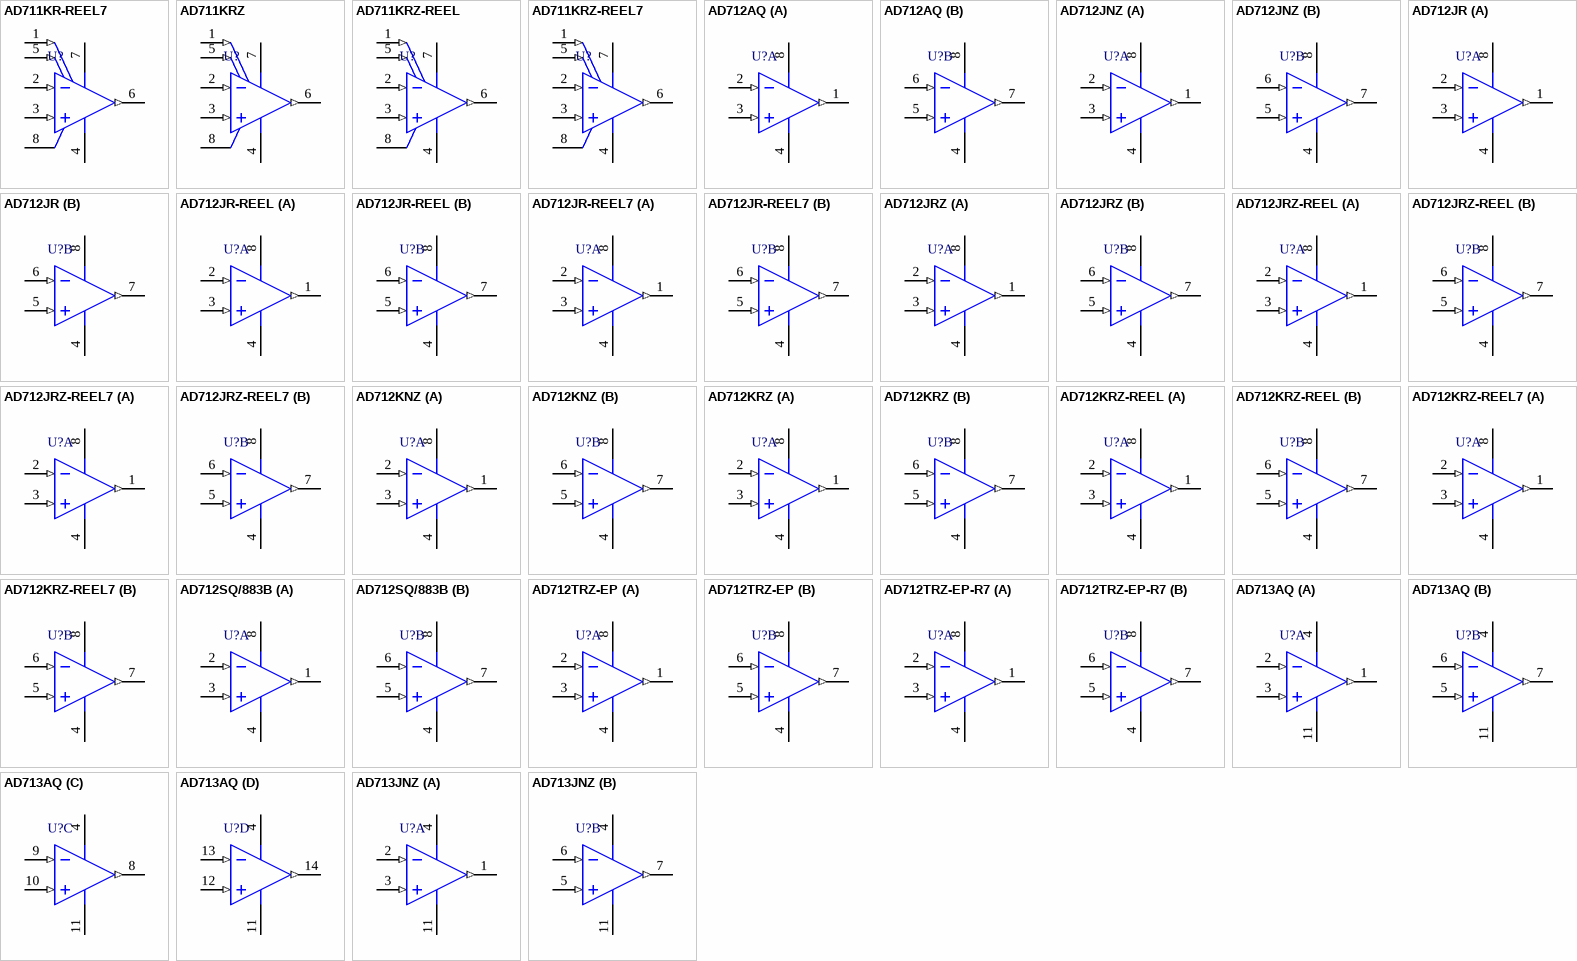
[diagram p3: symbols AD711KR-REEL7 to AD713JNZ]

## AD711KR-REEL7
designator U?
Single Channel Operational Amplifier, 4 MHz BW, 20 V/us SR, Commercial, 8-pin SOIC (R-8), Reel; Generic Part Number: AD711; Manufacturer: Analog Devices; PartNumber: AD711KR-REEL7; Amplifiers Per Package: 1; Input Bias Current: 15pA; Input Offset Voltage: 200uV; Iq/Amp: 2.8mA; Slew Rate: 20V/us; Small Signal Bandwidth: 4MHz; V Span Max: 36V; V Span Min: 9V; DatasheetVersion: Rev. E; PackageVersion: 060506-A; PackageReference: R-8; PackageDescription: 8-Pin Standard Small Outline Package, Body 3.9 x 4.9 mm, Pitch 1.27 mm; Supplier 1: Digi-Key; Supplier Part Number 1: AD711KR-REEL7-ND; Supplier 2: Newark; Supplier Part Number 2: 09B5549; Packing: Reel; Mounting Technology: Surface Mount; Code_JEDEC: MS-012-AA; ComponentLink1Description: Manufacturer URL; ComponentLink1URL: http://www.analog.com/en/index.html; ComponentLink2Description: Datasheet; ComponentLink2URL: http://www.analog.com/static/imported-files/data_sheets/AD711.pdf; ComponentLink3Description: Package Specification; ComponentLink3URL: http://www.analog.com/static/imported-files/packages/PKG_PDF/SOIC_Narrow%20(R)/R_8.pdf
footprint ADI-R-8_N (SOIC, 8-Leads, Body 4.9x3.9mm, Pitch 1.27mm, IPC Medium Density)
footprint ADI-R-8_L (SOIC, 8-Leads, Body 4.9x3.9mm, Pitch 1.27mm, IPC High Density)
footprint ADI-R-8_M (SOIC, 8-Leads, Body 4.9x3.9mm, Pitch 1.27mm, IPC Low Density)
pins: 1 OFFSET NULL (in), 2 INVERTING INPUT (in), 3 NONINVERTING INPUT (in), 4 -VS (power), 5 OFFSET NULL (in), 6 OUT (out), 7 +VS (power), 8 NC

## AD711KRZ
designator U?
Single Channel Operational Amplifier, 4 MHz BW, 20 V/us SR, Commercial, 8-pin SOIC (R-8), Tube; Generic Part Number: AD711; Manufacturer: Analog Devices; PartNumber: AD711KRZ; Amplifiers Per Package: 1; Input Bias Current: 15pA; Input Offset Voltage: 200uV; Iq/Amp: 2.8mA; Slew Rate: 20V/us; Small Signal Bandwidth: 4MHz; V Span Max: 36V; V Span Min: 9V; DatasheetVersion: Rev. E; PackageVersion: 060506-A; PackageReference: R-8; PackageDescription: 8-Pin Standard Small Outline Package, Body 3.9 x 4.9 mm, Pitch 1.27 mm; Supplier 1: Digi-Key; Supplier Part Number 1: AD711KRZ-ND; Supplier 2: Newark; Supplier Part Number 2: 59K4541; Packing: Tube; Mounting Technology: Surface Mount; Code_JEDEC: MS-012-AA; ComponentLink1Description: Manufacturer URL; ComponentLink1URL: http://www.analog.com/en/index.html; ComponentLink2Description: Datasheet; ComponentLink2URL: http://www.analog.com/static/imported-files/data_sheets/AD711.pdf; ComponentLink3Description: Package Specification; ComponentLink3URL: http://www.analog.com/static/imported-files/packages/PKG_PDF/SOIC_Narrow%20(R)/R_8.pdf
footprint ADI-R-8_N (SOIC, 8-Leads, Body 4.9x3.9mm, Pitch 1.27mm, IPC Medium Density)
footprint ADI-R-8_L (SOIC, 8-Leads, Body 4.9x3.9mm, Pitch 1.27mm, IPC High Density)
footprint ADI-R-8_M (SOIC, 8-Leads, Body 4.9x3.9mm, Pitch 1.27mm, IPC Low Density)
pins: 1 OFFSET NULL (in), 2 INVERTING INPUT (in), 3 NONINVERTING INPUT (in), 4 -VS (power), 5 OFFSET NULL (in), 6 OUT (out), 7 +VS (power), 8 NC

## AD711KRZ-REEL
designator U?
Single Channel Operational Amplifier, 4 MHz BW, 20 V/us SR, Commercial, 8-pin SOIC (R-8), Reel; Generic Part Number: AD711; Manufacturer: Analog Devices; PartNumber: AD711KRZ-REEL; Amplifiers Per Package: 1; Input Bias Current: 15pA; Input Offset Voltage: 200uV; Iq/Amp: 2.8mA; Slew Rate: 20V/us; Small Signal Bandwidth: 4MHz; V Span Max: 36V; V Span Min: 9V; DatasheetVersion: Rev. E; PackageVersion: 060506-A; PackageReference: R-8; PackageDescription: 8-Pin Standard Small Outline Package, Body 3.9 x 4.9 mm, Pitch 1.27 mm; Supplier 1: Digi-Key; Supplier Part Number 1: AD711KRZ-REEL-ND; Supplier 2: Newark; Supplier Part Number 2: 59K4542; Packing: Reel; Mounting Technology: Surface Mount; Code_JEDEC: MS-012-AA; ComponentLink1Description: Manufacturer URL; ComponentLink1URL: http://www.analog.com/en/index.html; ComponentLink2Description: Datasheet; ComponentLink2URL: http://www.analog.com/static/imported-files/data_sheets/AD711.pdf; ComponentLink3Description: Package Specification; ComponentLink3URL: http://www.analog.com/static/imported-files/packages/PKG_PDF/SOIC_Narrow%20(R)/R_8.pdf
footprint ADI-R-8_N (SOIC, 8-Leads, Body 4.9x3.9mm, Pitch 1.27mm, IPC Medium Density)
footprint ADI-R-8_L (SOIC, 8-Leads, Body 4.9x3.9mm, Pitch 1.27mm, IPC High Density)
footprint ADI-R-8_M (SOIC, 8-Leads, Body 4.9x3.9mm, Pitch 1.27mm, IPC Low Density)
pins: 1 OFFSET NULL (in), 2 INVERTING INPUT (in), 3 NONINVERTING INPUT (in), 4 -VS (power), 5 OFFSET NULL (in), 6 OUT (out), 7 +VS (power), 8 NC

## AD711KRZ-REEL7
designator U?
Single Channel Operational Amplifier, 4 MHz BW, 20 V/us SR, Commercial, 8-pin SOIC (R-8), Reel; Generic Part Number: AD711; Manufacturer: Analog Devices; PartNumber: AD711KRZ-REEL7; Amplifiers Per Package: 1; Input Bias Current: 15pA; Input Offset Voltage: 200uV; Iq/Amp: 2.8mA; Slew Rate: 20V/us; Small Signal Bandwidth: 4MHz; V Span Max: 36V; V Span Min: 9V; DatasheetVersion: Rev. E; PackageVersion: 060506-A; PackageReference: R-8; PackageDescription: 8-Pin Standard Small Outline Package, Body 3.9 x 4.9 mm, Pitch 1.27 mm; Supplier 1: Digi-Key; Supplier Part Number 1: AD711KRZ-REEL7TR-ND; Supplier 2: Digi-Key; Supplier Part Number 2: AD711KRZ-REEL7CT-ND; Supplier 3: Digi-Key; Supplier Part Number 3: AD711KRZ-REEL7DKR-ND; Supplier 4: Newark; Supplier Part Number 4: 59K4543; Packing: Reel; Mounting Technology: Surface Mount; Code_JEDEC: MS-012-AA; ComponentLink1Description: Manufacturer URL; ComponentLink1URL: http://www.analog.com/en/index.html; ComponentLink2Description: Datasheet; ComponentLink2URL: http://www.analog.com/static/imported-files/data_sheets/AD711.pdf; ComponentLink3Description: Package Specification; ComponentLink3URL: http://www.analog.com/static/imported-files/packages/PKG_PDF/SOIC_Narrow%20(R)/R_8.pdf
footprint ADI-R-8_N (SOIC, 8-Leads, Body 4.9x3.9mm, Pitch 1.27mm, IPC Medium Density)
footprint ADI-R-8_L (SOIC, 8-Leads, Body 4.9x3.9mm, Pitch 1.27mm, IPC High Density)
footprint ADI-R-8_M (SOIC, 8-Leads, Body 4.9x3.9mm, Pitch 1.27mm, IPC Low Density)
pins: 1 OFFSET NULL (in), 2 INVERTING INPUT (in), 3 NONINVERTING INPUT (in), 4 -VS (power), 5 OFFSET NULL (in), 6 OUT (out), 7 +VS (power), 8 NC

## AD712AQ
designator U?
Double Channel Operational Amplifier, 4 MHz BW, 20 V/us SR, Industrial, 8-pin DIP (Q-8), Tube; Generic Part Number: AD712; Manufacturer: Analog Devices; PartNumber: AD712AQ; Amplifiers Per Package: 2; Input Bias Current: 25pA; Input Offset Voltage: 300uV; Iq/Amp: 2.8mA; Slew Rate: 20V/us; Small Signal Bandwidth: 4MHz; V Span Max: 36V; V Span Min: 9V; DatasheetVersion: Rev. H; PackageReference: Q-8; PackageDescription: 8-Pin Ceramic Dual In-Line Package, Row spacing 7.62 mm, Pitch 2.54 mm; Supplier 1: Digi-Key; Supplier Part Number 1: AD712AQ-ND; Supplier 2: Newark; Supplier Part Number 2: 05F7274; Packing: Tube; Mounting Technology: Through Hole; ComponentLink1Description: Manufacturer URL; ComponentLink1URL: http://www.analog.com/en/index.html; ComponentLink2Description: Datasheet; ComponentLink2URL: http://www.analog.com/static/imported-files/data_sheets/AD712.pdf; ComponentLink3Description: Package Specification; ComponentLink3URL: http://www.analog.com/static/imported-files/packages/3925655241313314758Q_8.pdf
footprint ADI-Q-8 (DIP, 8-Leads, Body 10.29x6.73mm, Pitch 2.54mm)
pins on every part: 4 -V (power), 8 +V (power)
part A pins: 1 OUT (out), 2 INVERTING INPUT (in), 3 NONINVERTING INPUT (in)
part B pins: 5 NONINVERTING INPUT (in), 6 INVERTING INPUT (in), 7 OUT (out)

## AD712JNZ
designator U?
Double Channel Operational Amplifier, 4 MHz BW, 20 V/us SR, Commercial, 8-pin DIP (N-8), Tube; Generic Part Number: AD712; Manufacturer: Analog Devices; PartNumber: AD712JNZ; Amplifiers Per Package: 2; Input Bias Current: 25pA; Input Offset Voltage: 300uV; Iq/Amp: 2.8mA; Slew Rate: 20V/us; Small Signal Bandwidth: 4MHz; V Span Max: 36V; V Span Min: 9V; DatasheetVersion: Rev. H; PackageVersion: 070606-A; PackageReference: N-8; PackageDescription: 8-Pin Plastic Dual In-Line Package, Row spacing 7.62 mm, Pitch 2.54 mm; Supplier 1: Digi-Key; Supplier Part Number 1: AD712JNZ-ND; Supplier 2: Farnell; Supplier Part Number 2: 9604898; Supplier 3: Farnell; Supplier Part Number 3: 1523898; Supplier 4: Newark; Supplier Part Number 4: 59K4554; Packing: Tube; Mounting Technology: Through Hole; Code_JEDEC: MS-001; ComponentLink1Description: Manufacturer URL; ComponentLink1URL: http://www.analog.com/en/index.html; ComponentLink2Description: Datasheet; ComponentLink2URL: http://www.analog.com/static/imported-files/data_sheets/AD712.pdf; ComponentLink3Description: Package Specification; ComponentLink3URL: http:/www.analog.com/static/imported-files/packages/PKG_PDF/PDIP(N)/N_8.pdf
footprint ADI-N-8 (DIP, 8-Leads, Body 9.59x6.6mm, Pitch 2.54mm)
pins on every part: 4 -V (power), 8 +V (power)
part A pins: 1 OUT (out), 2 INVERTING INPUT (in), 3 NONINVERTING INPUT (in)
part B pins: 5 NONINVERTING INPUT (in), 6 INVERTING INPUT (in), 7 OUT (out)

## AD712JR
designator U?
Double Channel Operational Amplifier, 4 MHz BW, 20 V/us SR, Commercial, 8-pin SOIC (R-8), Tube; Generic Part Number: AD712; Manufacturer: Analog Devices; PartNumber: AD712JR; Amplifiers Per Package: 2; Input Bias Current: 25pA; Input Offset Voltage: 300uV; Iq/Amp: 2.8mA; Slew Rate: 20V/us; Small Signal Bandwidth: 4MHz; V Span Max: 36V; V Span Min: 9V; DatasheetVersion: Rev. H; PackageVersion: 060506-A; PackageReference: R-8; PackageDescription: 8-Pin Standard Small Outline Package, Body 3.9 x 4.9 mm, Pitch 1.27 mm; Supplier 1: Digi-Key; Supplier Part Number 1: AD712JR-ND; Packing: Tube; Mounting Technology: Surface Mount; Code_JEDEC: MS-012-AA; ComponentLink1Description: Manufacturer URL; ComponentLink1URL: http://www.analog.com/en/index.html; ComponentLink2Description: Datasheet; ComponentLink2URL: http://www.analog.com/static/imported-files/data_sheets/AD712.pdf; ComponentLink3Description: Package Specification; ComponentLink3URL: http://www.analog.com/static/imported-files/packages/PKG_PDF/SOIC_Narrow%20(R)/R_8.pdf
footprint ADI-R-8_N (SOIC, 8-Leads, Body 4.9x3.9mm, Pitch 1.27mm, IPC Medium Density)
footprint ADI-R-8_L (SOIC, 8-Leads, Body 4.9x3.9mm, Pitch 1.27mm, IPC High Density)
footprint ADI-R-8_M (SOIC, 8-Leads, Body 4.9x3.9mm, Pitch 1.27mm, IPC Low Density)
pins on every part: 4 -V (power), 8 +V (power)
part A pins: 1 OUT (out), 2 INVERTING INPUT (in), 3 NONINVERTING INPUT (in)
part B pins: 5 NONINVERTING INPUT (in), 6 INVERTING INPUT (in), 7 OUT (out)

## AD712JR-REEL
designator U?
Double Channel Operational Amplifier, 4 MHz BW, 20 V/us SR, Commercial, 8-pin SOIC (R-8), Reel; Generic Part Number: AD712; Manufacturer: Analog Devices; PartNumber: AD712JR-REEL; Amplifiers Per Package: 2; Input Bias Current: 25pA; Input Offset Voltage: 300uV; Iq/Amp: 2.8mA; Slew Rate: 20V/us; Small Signal Bandwidth: 4MHz; V Span Max: 36V; V Span Min: 9V; DatasheetVersion: Rev. H; PackageVersion: 060506-A; PackageReference: R-8; PackageDescription: 8-Pin Standard Small Outline Package, Body 3.9 x 4.9 mm, Pitch 1.27 mm; Supplier 1: Digi-Key; Supplier Part Number 1: AD712JR-REEL-ND; Supplier 2: Newark; Supplier Part Number 2: 09B5552; Packing: Reel; Mounting Technology: Surface Mount; Code_JEDEC: MS-012-AA; ComponentLink1Description: Manufacturer URL; ComponentLink1URL: http://www.analog.com/en/index.html; ComponentLink2Description: Datasheet; ComponentLink2URL: http://www.analog.com/static/imported-files/data_sheets/AD712.pdf; ComponentLink3Description: Package Specification; ComponentLink3URL: http://www.analog.com/static/imported-files/packages/PKG_PDF/SOIC_Narrow%20(R)/R_8.pdf
footprint ADI-R-8_N (SOIC, 8-Leads, Body 4.9x3.9mm, Pitch 1.27mm, IPC Medium Density)
footprint ADI-R-8_L (SOIC, 8-Leads, Body 4.9x3.9mm, Pitch 1.27mm, IPC High Density)
footprint ADI-R-8_M (SOIC, 8-Leads, Body 4.9x3.9mm, Pitch 1.27mm, IPC Low Density)
pins on every part: 4 -V (power), 8 +V (power)
part A pins: 1 OUT (out), 2 INVERTING INPUT (in), 3 NONINVERTING INPUT (in)
part B pins: 5 NONINVERTING INPUT (in), 6 INVERTING INPUT (in), 7 OUT (out)

## AD712JR-REEL7
designator U?
Double Channel Operational Amplifier, 4 MHz BW, 20 V/us SR, Commercial, 8-pin SOIC (R-8), Reel; Generic Part Number: AD712; Manufacturer: Analog Devices; PartNumber: AD712JR-REEL7; Amplifiers Per Package: 2; Input Bias Current: 25pA; Input Offset Voltage: 300uV; Iq/Amp: 2.8mA; Slew Rate: 20V/us; Small Signal Bandwidth: 4MHz; V Span Max: 36V; V Span Min: 9V; DatasheetVersion: Rev. H; PackageVersion: 060506-A; PackageReference: R-8; PackageDescription: 8-Pin Standard Small Outline Package, Body 3.9 x 4.9 mm, Pitch 1.27 mm; Supplier 1: Digi-Key; Supplier Part Number 1: AD712JR-REEL7TR-ND; Supplier 2: Newark; Supplier Part Number 2: 09B5553; Packing: Reel; Mounting Technology: Surface Mount; Code_JEDEC: MS-012-AA; ComponentLink1Description: Manufacturer URL; ComponentLink1URL: http://www.analog.com/en/index.html; ComponentLink2Description: Datasheet; ComponentLink2URL: http://www.analog.com/static/imported-files/data_sheets/AD712.pdf; ComponentLink3Description: Package Specification; ComponentLink3URL: http://www.analog.com/static/imported-files/packages/PKG_PDF/SOIC_Narrow%20(R)/R_8.pdf
footprint ADI-R-8_N (SOIC, 8-Leads, Body 4.9x3.9mm, Pitch 1.27mm, IPC Medium Density)
footprint ADI-R-8_L (SOIC, 8-Leads, Body 4.9x3.9mm, Pitch 1.27mm, IPC High Density)
footprint ADI-R-8_M (SOIC, 8-Leads, Body 4.9x3.9mm, Pitch 1.27mm, IPC Low Density)
pins on every part: 4 -V (power), 8 +V (power)
part A pins: 1 OUT (out), 2 INVERTING INPUT (in), 3 NONINVERTING INPUT (in)
part B pins: 5 NONINVERTING INPUT (in), 6 INVERTING INPUT (in), 7 OUT (out)

## AD712JRZ
designator U?
Double Channel Operational Amplifier, 4 MHz BW, 20 V/us SR, Commercial, 8-pin SOIC (R-8), Tube; Generic Part Number: AD712; Manufacturer: Analog Devices; PartNumber: AD712JRZ; Amplifiers Per Package: 2; Input Bias Current: 25pA; Input Offset Voltage: 300uV; Iq/Amp: 2.8mA; Slew Rate: 20V/us; Small Signal Bandwidth: 4MHz; V Span Max: 36V; V Span Min: 9V; DatasheetVersion: Rev. H; PackageVersion: 060506-A; PackageReference: R-8; PackageDescription: 8-Pin Standard Small Outline Package, Body 3.9 x 4.9 mm, Pitch 1.27 mm; Supplier 1: Digi-Key; Supplier Part Number 1: AD712JRZ-ND; Supplier 2: Farnell; Supplier Part Number 2: 9426400; Supplier 3: Newark; Supplier Part Number 3: 19M0850; Packing: Tube; Mounting Technology: Surface Mount; Code_JEDEC: MS-012-AA; ComponentLink1Description: Manufacturer URL; ComponentLink1URL: http://www.analog.com/en/index.html; ComponentLink2Description: Datasheet; ComponentLink2URL: http://www.analog.com/static/imported-files/data_sheets/AD712.pdf; ComponentLink3Description: Package Specification; ComponentLink3URL: http://www.analog.com/static/imported-files/packages/PKG_PDF/SOIC_Narrow%20(R)/R_8.pdf
footprint ADI-R-8_N (SOIC, 8-Leads, Body 4.9x3.9mm, Pitch 1.27mm, IPC Medium Density)
footprint ADI-R-8_L (SOIC, 8-Leads, Body 4.9x3.9mm, Pitch 1.27mm, IPC High Density)
footprint ADI-R-8_M (SOIC, 8-Leads, Body 4.9x3.9mm, Pitch 1.27mm, IPC Low Density)
pins on every part: 4 -V (power), 8 +V (power)
part A pins: 1 OUT (out), 2 INVERTING INPUT (in), 3 NONINVERTING INPUT (in)
part B pins: 5 NONINVERTING INPUT (in), 6 INVERTING INPUT (in), 7 OUT (out)

## AD712JRZ-REEL
designator U?
Double Channel Operational Amplifier, 4 MHz BW, 20 V/us SR, Commercial, 8-pin SOIC (R-8), Reel; Generic Part Number: AD712; Manufacturer: Analog Devices; PartNumber: AD712JRZ-REEL; Amplifiers Per Package: 2; Input Bias Current: 25pA; Input Offset Voltage: 300uV; Iq/Amp: 2.8mA; Slew Rate: 20V/us; Small Signal Bandwidth: 4MHz; V Span Max: 36V; V Span Min: 9V; DatasheetVersion: Rev. H; PackageVersion: 060506-A; PackageReference: R-8; PackageDescription: 8-Pin Standard Small Outline Package, Body 3.9 x 4.9 mm, Pitch 1.27 mm; Supplier 1: Digi-Key; Supplier Part Number 1: AD712JRZ-REEL-ND; Supplier 2: Newark; Supplier Part Number 2: 87H9972; Packing: Reel; Mounting Technology: Surface Mount; Code_JEDEC: MS-012-AA; ComponentLink1Description: Manufacturer URL; ComponentLink1URL: http://www.analog.com/en/index.html; ComponentLink2Description: Datasheet; ComponentLink2URL: http://www.analog.com/static/imported-files/data_sheets/AD712.pdf; ComponentLink3Description: Package Specification; ComponentLink3URL: http://www.analog.com/static/imported-files/packages/PKG_PDF/SOIC_Narrow%20(R)/R_8.pdf
footprint ADI-R-8_N (SOIC, 8-Leads, Body 4.9x3.9mm, Pitch 1.27mm, IPC Medium Density)
footprint ADI-R-8_L (SOIC, 8-Leads, Body 4.9x3.9mm, Pitch 1.27mm, IPC High Density)
footprint ADI-R-8_M (SOIC, 8-Leads, Body 4.9x3.9mm, Pitch 1.27mm, IPC Low Density)
pins on every part: 4 -V (power), 8 +V (power)
part A pins: 1 OUT (out), 2 INVERTING INPUT (in), 3 NONINVERTING INPUT (in)
part B pins: 5 NONINVERTING INPUT (in), 6 INVERTING INPUT (in), 7 OUT (out)